# EAGLE library part 61002011921 (library Eagle_BOARD-TO-BOARD_CONNECTORS (rev18b))
WR-PHD 2.54mm SMT Socket Header, 20 Pins=>Code : CON_BTB_SHD_2.54_1_SMT_61002011921 <http://katalog.we-online.de/media/images/eican/Con_BTB_SHD_2.54_1_SMT_6100xx11921_pf2.jpg> Details see: http://katalog.we-online.de/en/em/PHD_2_54_SMT_SOCKET_HEADER_6100XXXXX21 Created 2014-05-30, Karrer Zheng 2014 (C) Würth Elektronik
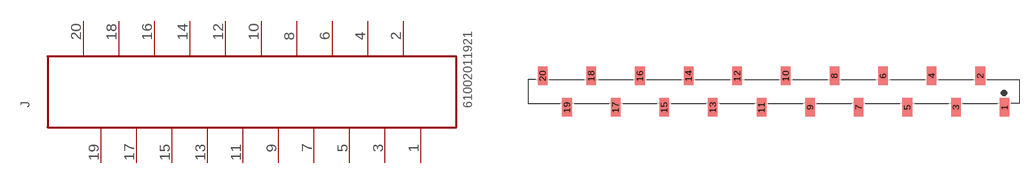
[diagram p191: symbol with the pads of 61002011921; footprint 61002011921]

Designator prefix J

## 61002011921  [61002011921]
1  1  pas
2  2  pas
3  3  pas
4  4  pas
5  5  pas
6  6  pas
7  7  pas
8  8  pas
9  9  pas
10  10  pas
11  11  pas
12  12  pas
13  13  pas
14  14  pas
15  15  pas
16  16  pas
17  17  pas
18  18  pas
19  19  pas
20  20  pas

## Footprint 61002011921 (pad centres in mm)
WR-PHD 2.54mm SMT Socket Header, 20 Pins
smd 1 x 1.91: 1 24.13,-1.645; 2 21.59,1.645; 3 19.05,-1.645; 4 16.51,1.645; 5 13.97,-1.645; 6 11.43,1.645; 7 8.89,-1.645; 8 6.35,1.645; 9 3.81,-1.645; 10 1.27,1.645; 11 -1.27,-1.645; 12 -3.81,1.645; 13 -6.35,-1.645; 14 -8.89,1.645; 15 -11.43,-1.645; 16 -13.97,1.645; 17 -16.51,-1.645; 18 -19.05,1.645; 19 -21.59,-1.645; 20 -24.13,1.645